# Altium footprint library WR-TBL_Spring Clamp_3.81mm.PcbLib: 50 footprints (part 1 of 4)
Each footprint in its own frame and in the unit in brackets; x right, y up, seen from the top. Pads: shape width x height; smd on the part's side, far side on the other; paste and mask are expansions set on the pad; w line width, h text height; cw(c..) or ccw(c..) is an arc to the next point about the centre after c.
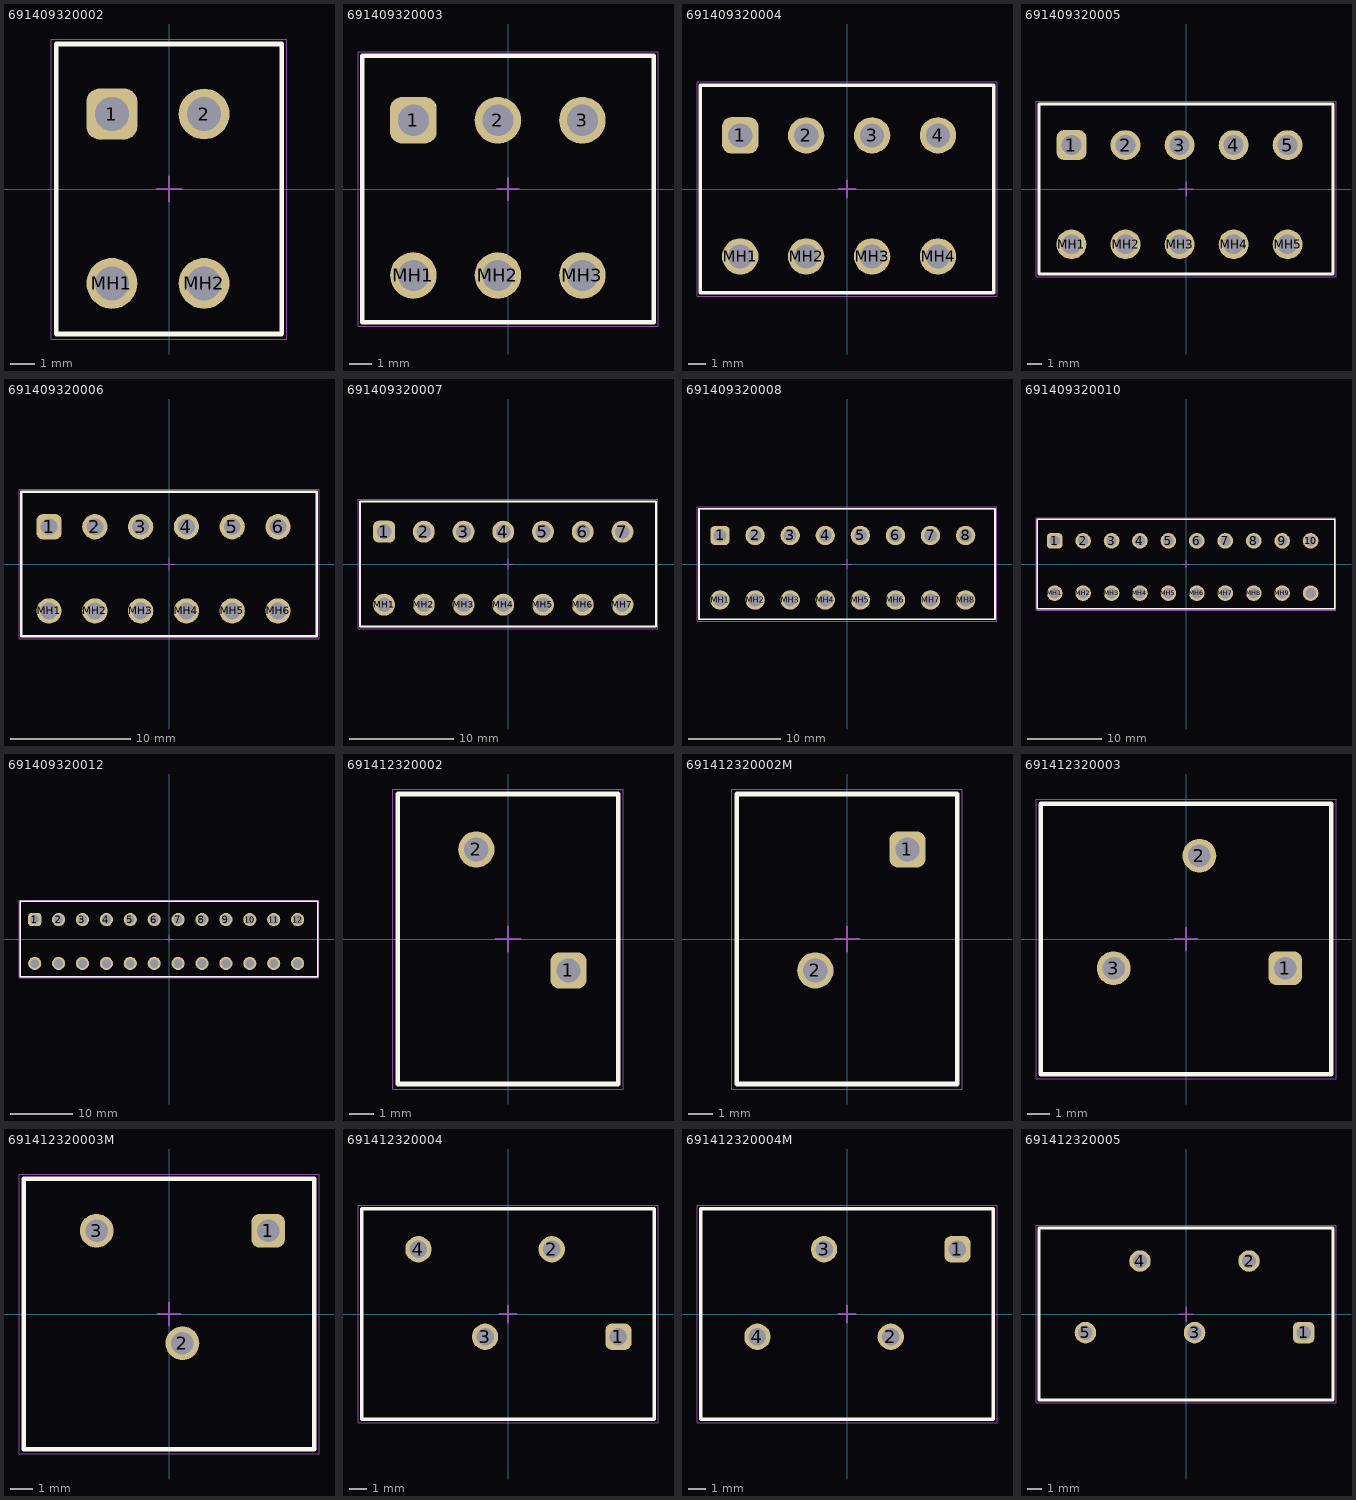
[diagram p0: the footprints below, top view; thin cyan lines are the x and y axes]

## 691409320002 [mm] "Terminal Block, Green, Screenless 45deg Entry, pitch 3.81mm, 2p"
height 12.2
pads (4):
  rrect50% 2.1x2.1 hole 1.4: 1(-2.36,3.1)
  round 2.1 hole 1.4: 2(1.45,3.1) MH1(-2.36,-3.9) MH2(1.45,-3.9)
Top Overlay:
  lines w0.2: -4.66,-6 4.66,-6 4.66,6 -4.66,6 -4.66,-6
Top Assembly:
  lines w0.1: -4.66,-6 4.66,-6 4.66,6 -4.66,6 -4.66,-6
Top Designator:
  text ".Designator" at -3.647,-0.357 h1
Top 3D Body:
  lines w0.1: -4.66,-6 4.66,-6 4.66,6 -4.66,6 -4.66,-6
Top Courtyard:
  lines w0.05: -4.86,-6.2 4.86,-6.2 4.86,6.2 -4.86,6.2 -4.86,-6.2
Top Component Center:
  lines w0.1: -0.5,0 0.5,0 ; 0,-0.5 0,0.5
3D body "691409320002.stp": height 12.68, standoff -3.3, extent -4.66,-6 4.66,6

## 691409320003 [mm] "Terminal Block, Green, Screenless 45deg Entry, pitch 3.81mm, 3p"
height 12.2
pads (6):
  rrect50% 2.1x2.1 hole 1.4: 1(-4.265,3.1)
  round 2.1 hole 1.4: 2(-0.455,3.1) 3(3.355,3.1) MH1(-4.265,-3.9) MH2(-0.455,-3.9) MH3(3.355,-3.9)
Top Overlay:
  lines w0.2: -6.565,-6 -6.565,6 6.565,6 6.565,-6 -6.565,-6
Top Assembly:
  lines w0.1: -6.565,-6 6.565,-6 6.565,6 -6.565,6 -6.565,-6
Top Designator:
  text ".Designator" at -3.647,-0.357 h1
Top 3D Body:
  lines w0.1: -6.565,-6 6.565,-6 6.565,6 -6.565,6 -6.565,-6
Top Courtyard:
  lines w0.05: -6.765,-6.2 -6.765,6.2 6.765,6.2 6.765,-6.2 -6.765,-6.2
Top Component Center:
  lines w0.1: -0.5,0 0.5,0 ; 0,-0.5 0,0.5
3D body "691409320003.stp": height 12.68, standoff -3.3, extent -6.565,-6 6.565,6

## 691409320004 [mm] "Terminal Block, Green, Screenless 45deg Entry, pitch 3.81mm, 4p"
height 12.2
pads (8):
  rrect50% 2.1x2.1 hole 1.4: 1(-6.17,3.1)
  round 2.1 hole 1.4: 2(-2.36,3.1) 3(1.45,3.1) 4(5.26,3.1) MH1(-6.17,-3.9) MH2(-2.36,-3.9) MH3(1.45,-3.9) MH4(5.26,-3.9)
Top Overlay:
  lines w0.2: -8.47,-6 8.47,-6 8.47,6 -8.47,6 -8.47,-6
Top Assembly:
  lines w0.1: -8.47,-6 -8.47,6 8.47,6 8.47,-6 -8.47,-6
Top Designator:
  text ".Designator" at -3.647,-0.357 h1
Top 3D Body:
  lines w0.1: -8.47,-6 -8.47,6 8.47,6 8.47,-6 -8.47,-6
Top Courtyard:
  lines w0.05: -8.67,-6.2 8.67,-6.2 8.67,6.2 -8.67,6.2 -8.67,-6.2
Top Component Center:
  lines w0.1: -0.5,0 0.5,0 ; 0,-0.5 0,0.5
3D body "691409320004.stp": height 12.68, standoff -3.3, extent -8.47,-6 8.47,6

## 691409320005 [mm] "Terminal Block, Green, Screenless 45deg Entry, pitch 3.81mm, 5p"
height 12.2
pads (10):
  rrect50% 2.1x2.1 hole 1.4: 1(-8.075,3.1)
  round 2.1 hole 1.4: 2(-4.265,3.1) 3(-0.455,3.1) 4(3.355,3.1) 5(7.165,3.1) MH1(-8.075,-3.9) MH2(-4.265,-3.9) MH3(-0.455,-3.9) MH4(3.355,-3.9) MH5(7.165,-3.9)
Top Overlay:
  lines w0.2: -10.375,-6 -10.375,6 10.375,6 10.375,-6 -10.375,-6
Top Assembly:
  lines w0.1: -10.375,-6 10.375,-6 10.375,6 -10.375,6 -10.375,-6
Top Designator:
  text ".Designator" at -3.647,-0.357 h1
Top 3D Body:
  lines w0.1: -10.375,-6 10.375,-6 10.375,6 -10.375,6 -10.375,-6
Top Courtyard:
  lines w0.05: -10.575,-6.2 -10.575,6.2 10.575,6.2 10.575,-6.2 -10.575,-6.2
Top Component Center:
  lines w0.1: -0.5,0 0.5,0 ; 0,-0.5 0,0.5
3D body "691409320005.stp": height 12.68, standoff -3.3, extent -10.375,-6 10.375,6

## 691409320006 [mm] "Terminal Block, Green, Screenless 45deg Entry, pitch 3.81mm, 6p"
height 12.2
pads (12):
  rrect50% 2.1x2.1 hole 1.4: 1(-9.98,3.1)
  round 2.1 hole 1.4: 2(-6.17,3.1) 3(-2.36,3.1) 4(1.45,3.1) 5(5.26,3.1) 6(9.07,3.1) MH1(-9.98,-3.9) MH2(-6.17,-3.9) MH3(-2.36,-3.9) MH4(1.45,-3.9) MH5(5.26,-3.9) MH6(9.07,-3.9)
Top Overlay:
  lines w0.2: -12.28,-6 -12.28,6 12.28,6 12.28,-6 -12.28,-6
Top Assembly:
  lines w0.1: -12.28,-6 12.28,-6 12.28,6 -12.28,6 -12.28,-6
Top Designator:
  text ".Designator" at -3.647,-0.357 h1
Top 3D Body:
  lines w0.1: -12.28,-6 12.28,-6 12.28,6 -12.28,6 -12.28,-6
Top Courtyard:
  lines w0.05: -12.48,-6.2 -12.48,6.2 12.48,6.2 12.48,-6.2 -12.48,-6.2
Top Component Center:
  lines w0.1: -0.5,0 0.5,0 ; 0,-0.5 0,0.5
3D body "691409320006.stp": height 12.68, standoff -3.3, extent -12.28,-6 12.28,6

## 691409320007 [mm] "Terminal Block, Green, Screenless 45deg Entry, pitch 3.81mm, 7p"
height 12.2
pads (14):
  rrect50% 2.1x2.1 hole 1.4: 1(-11.885,3.1)
  round 2.1 hole 1.4: 2(-8.075,3.1) 3(-4.265,3.1) 4(-0.455,3.1) 5(3.355,3.1) 6(7.165,3.1) 7(10.975,3.1) MH1(-11.885,-3.9) MH2(-8.075,-3.9) MH3(-4.265,-3.9) MH4(-0.455,-3.9) MH5(3.355,-3.9) MH6(7.165,-3.9) MH7(10.975,-3.9)
Top Overlay:
  lines w0.2: -14.185,-6 14.185,-6 14.185,6 -14.185,6 -14.185,-6
Top Assembly:
  lines w0.1: -14.185,-6 -14.185,6 14.185,6 14.185,-6 -14.185,-6
Top Designator:
  text ".Designator" at -3.647,-0.357 h1
Top 3D Body:
  lines w0.1: -14.185,-6 -14.185,6 14.185,6 14.185,-6 -14.185,-6
Top Courtyard:
  lines w0.05: -14.385,-6.2 14.385,-6.2 14.385,6.2 -14.385,6.2 -14.385,-6.2
Top Component Center:
  lines w0.1: -0.5,0 0.5,0 ; 0,-0.5 0,0.5
3D body "691409320007.stp": height 12.68, standoff -3.3, extent -14.185,-6 14.185,6

## 691409320008 [mm] "Terminal Block, Green, Screenless 45deg Entry, pitch 3.81mm, 8p"
height 12.2
pads (16):
  rrect50% 2.1x2.1 hole 1.4: 1(-13.79,3.1)
  round 2.1 hole 1.4: 2(-9.98,3.1) 3(-6.17,3.1) 4(-2.36,3.1) 5(1.45,3.1) 6(5.26,3.1) 7(9.07,3.1) 8(12.88,3.1) MH1(-13.79,-3.9) MH2(-9.98,-3.9) MH3(-6.17,-3.9) MH4(-2.36,-3.9) MH5(1.45,-3.9) MH6(5.26,-3.9) MH7(9.07,-3.9) MH8(12.88,-3.9)
Top Overlay:
  lines w0.2: -16.09,-6 -16.09,6 16.09,6 16.09,-6 -16.09,-6
Top Assembly:
  lines w0.1: -16.09,-6 16.09,-6 16.09,6 -16.09,6 -16.09,-6
Top Designator:
  text ".Designator" at -3.647,-0.357 h1
Top 3D Body:
  lines w0.1: -16.09,-6 16.09,-6 16.09,6 -16.09,6 -16.09,-6
Top Courtyard:
  lines w0.05: -16.29,-6.2 -16.29,6.2 16.29,6.2 16.29,-6.2 -16.29,-6.2
Top Component Center:
  lines w0.1: -0.5,0 0.5,0 ; 0,-0.5 0,0.5
3D body "691409320008.stp": height 12.68, standoff -3.3, extent -16.09,-6 16.09,6

## 691409320010 [mm] "Terminal Block, Green, Screenless 45deg Entry, pitch 3.81mm, 10p"
height 12.2
pads (20):
  rrect50% 2.1x2.1 hole 1.4: 1(-17.6,3.1)
  round 2.1 hole 1.4: 2(-13.79,3.1) 3(-9.98,3.1) 4(-6.17,3.1) 5(-2.36,3.1) 6(1.45,3.1) 7(5.26,3.1) 8(9.07,3.1) 9(12.88,3.1) 10(16.69,3.1) MH1(-17.6,-3.9) MH2(-13.79,-3.9) MH3(-9.98,-3.9) MH4(-6.17,-3.9) MH5(-2.36,-3.9) MH6(1.45,-3.9) MH7(5.26,-3.9) MH8(9.07,-3.9) MH9(12.88,-3.9) MH10(16.69,-3.9)
Top Overlay:
  lines w0.2: -19.9,-6 19.9,-6 19.9,6 -19.9,6 -19.9,-6
Top Assembly:
  lines w0.1: -19.9,-6 -19.9,6 19.9,6 19.9,-6 -19.9,-6
Top Designator:
  text ".Designator" at -3.647,-0.357 h1
Top 3D Body:
  lines w0.1: -19.9,-6 -19.9,6 19.9,6 19.9,-6 -19.9,-6
Top Courtyard:
  lines w0.05: -20.1,-6.2 20.1,-6.2 20.1,6.2 -20.1,6.2 -20.1,-6.2
Top Component Center:
  lines w0.1: -0.5,0 0.5,0 ; 0,-0.5 0,0.5
3D body "691409320010.stp": height 12.68, standoff -3.3, extent -19.9,-6 19.9,6

## 691409320012 [mm] "Terminal Block, Green, Screenless 45deg Entry, pitch 3.81mm, 12p"
height 12.2
pads (24):
  rrect50% 2.1x2.1 hole 1.4: 1(-21.41,3.1)
  round 2.1 hole 1.4: 2(-17.6,3.1) 3(-13.79,3.1) 4(-9.98,3.1) 5(-6.17,3.1) 6(-2.36,3.1) 7(1.45,3.1) 8(5.26,3.1) 9(9.07,3.1) 10(12.88,3.1) 11(16.69,3.1) 12(20.5,3.1) MH1(-21.41,-3.9) MH2(-17.6,-3.9) MH3(-13.79,-3.9) MH4(-9.98,-3.9) MH5(-6.17,-3.9) MH6(-2.36,-3.9) MH7(1.45,-3.9) MH8(5.26,-3.9) MH9(9.07,-3.9) MH10(12.88,-3.9) MH11(16.69,-3.9) MH12(20.5,-3.9)
Top Overlay:
  lines w0.2: -23.71,-6 -23.71,6 23.71,6 23.71,-6 -23.71,-6
Top Assembly:
  lines w0.1: -23.71,-6 23.71,-6 23.71,6 -23.71,6 -23.71,-6
Top Designator:
  text ".Designator" at -3.647,-0.357 h1
Top 3D Body:
  lines w0.1: -23.71,-6 23.71,-6 23.71,6 -23.71,6 -23.71,-6
Top Courtyard:
  lines w0.05: -23.91,-6.2 -23.91,6.2 23.91,6.2 23.91,-6.2 -23.91,-6.2
Top Component Center:
  lines w0.1: -0.5,0 0.5,0 ; 0,-0.5 0,0.5
3D body "691409320012.stp": height 12.68, standoff -3.3, extent -23.71,-6 23.71,6

## 691412320002 [mm] "3.81mm 45¡ã Cable Entry Screwless, 2p"
height 13.2
pads (2):
  rrect50% 1.5x1.5 hole 1: 1(2.5,-1.3)
  round 1.5 hole 1: 2(-1.31,3.7)
Top Overlay:
  lines w0.2: -4.56,-6 4.56,-6 4.56,6 -4.56,6 -4.56,-6
Top Assembly:
  lines w0.1: -4.56,-6 -4.56,6 4.56,6 4.56,-6 -4.56,-6
Top Designator:
  text ".Designator" at -3.647,-0.357 h1
Top 3D Body:
  lines w0.1: -4.56,-6 4.56,-6 4.56,6 -4.56,6 -4.56,-6
Top Courtyard:
  lines w0.05: -4.76,-6.2 -4.76,6.2 4.76,6.2 4.76,-6.2 -4.76,-6.2
Top Component Center:
  lines w0.1: -0.5,0 0.5,0 ; 0,-0.5 0,0.5
3D body "691412320002.stp": height 13.28, standoff -3.52, extent -4.56,-6 4.56,6

## 691412320002M [mm] "3.81 mm Screwless 45¡ã Entry, 2p"
height 13.2
pads (2):
  rrect50% 1.5x1.5 hole 1: 1(2.5,3.7)
  round 1.5 hole 1: 2(-1.31,-1.3)
Top Overlay:
  lines w0.2: -4.56,-6 -4.56,6 4.56,6 4.56,-6 -4.56,-6
Top Assembly:
  lines w0.1: -4.56,-6 4.56,-6 4.56,6 -4.56,6 -4.56,-6
Top Designator:
  text ".Designator" at -3.647,-0.357 h1
Top 3D Body:
  lines w0.1: -4.56,-6 -4.56,6 4.56,6 4.56,-6 -4.56,-6
Top Courtyard:
  lines w0.05: -4.76,-6.2 4.76,-6.2 4.76,6.2 -4.76,6.2 -4.76,-6.2
Top Component Center:
  lines w0.1: -0.5,0 0.5,0 ; 0,-0.5 0,0.5
3D body "691412320002M.stp": height 13.28, standoff -3.52, extent -4.56,-6 4.56,6

## 691412320003 [mm] "3.81mm 45¡ã Cable Entry Screwless, 3p"
height 13.2
pads (3):
  rrect50% 1.5x1.5 hole 1: 1(4.405,-1.3)
  round 1.5 hole 1: 2(0.595,3.7) 3(-3.215,-1.3)
Top Overlay:
  lines w0.2: -6.465,-6 6.465,-6 6.465,6 -6.465,6 -6.465,-6
Top Assembly:
  lines w0.1: -6.465,-6 -6.465,6 6.465,6 6.465,-6 -6.465,-6
Top Designator:
  text ".Designator" at -3.647,-0.357 h1
Top 3D Body:
  lines w0.1: -6.465,-6 6.465,-6 6.465,6 -6.465,6 -6.465,-6
Top Courtyard:
  lines w0.05: -6.665,-6.2 -6.665,6.2 6.665,6.2 6.665,-6.2 -6.665,-6.2
Top Component Center:
  lines w0.1: -0.5,0 0.5,0 ; 0,-0.5 0,0.5
3D body "691412320003.stp": height 13.28, standoff -3.52, extent -6.465,-6 6.465,6

## 691412320003M [mm] "3.81 mm Screwless 45¡ã Entry, 3p"
height 13.2
pads (3):
  rrect50% 1.5x1.5 hole 1: 1(4.405,3.7)
  round 1.5 hole 1: 2(0.595,-1.3) 3(-3.215,3.7)
Top Overlay:
  lines w0.2: -6.465,-6 -6.465,6 6.465,6 6.465,-6 -6.465,-6
Top Assembly:
  lines w0.1: -6.465,-6 6.465,-6 6.465,6 -6.465,6 -6.465,-6
Top Designator:
  text ".Designator" at -3.647,-0.357 h1
Top 3D Body:
  lines w0.1: -6.465,-6 -6.465,6 6.465,6 6.465,-6 -6.465,-6
Top Courtyard:
  lines w0.05: -6.665,-6.2 6.665,-6.2 6.665,6.2 -6.665,6.2 -6.665,-6.2
Top Component Center:
  lines w0.1: -0.5,0 0.5,0 ; 0,-0.5 0,0.5
3D body "691412320003M.stp": height 13.28, standoff -3.52, extent -6.465,-6 6.465,6

## 691412320004 [mm] "3.81mm 45¡ã Cable Entry Screwless, 4p"
height 13.2
pads (4):
  rrect50% 1.5x1.5 hole 1: 1(6.31,-1.3)
  round 1.5 hole 1: 2(2.5,3.7) 3(-1.31,-1.3) 4(-5.12,3.7)
Top Overlay:
  lines w0.2: -8.37,-6 8.37,-6 8.37,6 -8.37,6 -8.37,-6
Top Assembly:
  lines w0.1: -8.37,-6 -8.37,6 8.37,6 8.37,-6 -8.37,-6
Top Designator:
  text ".Designator" at -3.647,-0.357 h1
Top 3D Body:
  lines w0.1: -8.37,-6 8.37,-6 8.37,6 -8.37,6 -8.37,-6
Top Courtyard:
  lines w0.05: -8.57,-6.2 -8.57,6.2 8.57,6.2 8.57,-6.2 -8.57,-6.2
Top Component Center:
  lines w0.1: -0.5,0 0.5,0 ; 0,-0.5 0,0.5
3D body "691412320004.stp": height 13.28, standoff -3.52, extent -8.37,-6 8.37,6

## 691412320004M [mm] "3.81 mm Screwless 45¡ã Entry, 4p"
height 13.2
pads (4):
  rrect50% 1.5x1.5 hole 1: 1(6.31,3.7)
  round 1.5 hole 1: 2(2.5,-1.3) 3(-1.31,3.7) 4(-5.12,-1.3)
Top Overlay:
  lines w0.2: -8.37,-6 8.37,-6 8.37,6 -8.37,6 -8.37,-6
Top Assembly:
  lines w0.1: -8.37,-6 -8.37,6 8.37,6 8.37,-6 -8.37,-6
Top Designator:
  text ".Designator" at -3.647,-0.357 h1
Top 3D Body:
  lines w0.1: -8.37,-6 8.37,-6 8.37,6 -8.37,6 -8.37,-6
Top Courtyard:
  lines w0.05: -8.57,-6.2 -8.57,6.2 8.57,6.2 8.57,-6.2 -8.57,-6.2
Top Component Center:
  lines w0.1: -0.5,0 0.5,0 ; 0,-0.5 0,0.5
3D body "691412320004M.stp": height 13.28, standoff -3.52, extent -8.37,-6 8.37,6

## 691412320005 [mm] "3.81mm 45¡ã Cable Entry Screwless, 5p"
height 13.2
pads (5):
  rrect50% 1.5x1.5 hole 1: 1(8.215,-1.3)
  round 1.5 hole 1: 2(4.405,3.7) 3(0.595,-1.3) 4(-3.215,3.7) 5(-7.025,-1.3)
Top Overlay:
  lines w0.2: -10.275,-6 -10.275,6 10.275,6 10.275,-6 -10.275,-6
Top Assembly:
  lines w0.1: -10.275,-6 10.275,-6 10.275,6 -10.275,6 -10.275,-6
Top Designator:
  text ".Designator" at -3.647,-0.357 h1
Top 3D Body:
  lines w0.1: -10.275,-6 -10.275,6 10.275,6 10.275,-6 -10.275,-6
Top Courtyard:
  lines w0.05: -10.475,-6.2 10.475,-6.2 10.475,6.2 -10.475,6.2 -10.475,-6.2
Top Component Center:
  lines w0.1: -0.5,0 0.5,0 ; 0,-0.5 0,0.5
3D body "691412320005.stp": height 13.28, standoff -3.52, extent -10.275,-6 10.275,6